# EAGLE library part DART-SD410 (library glasses)
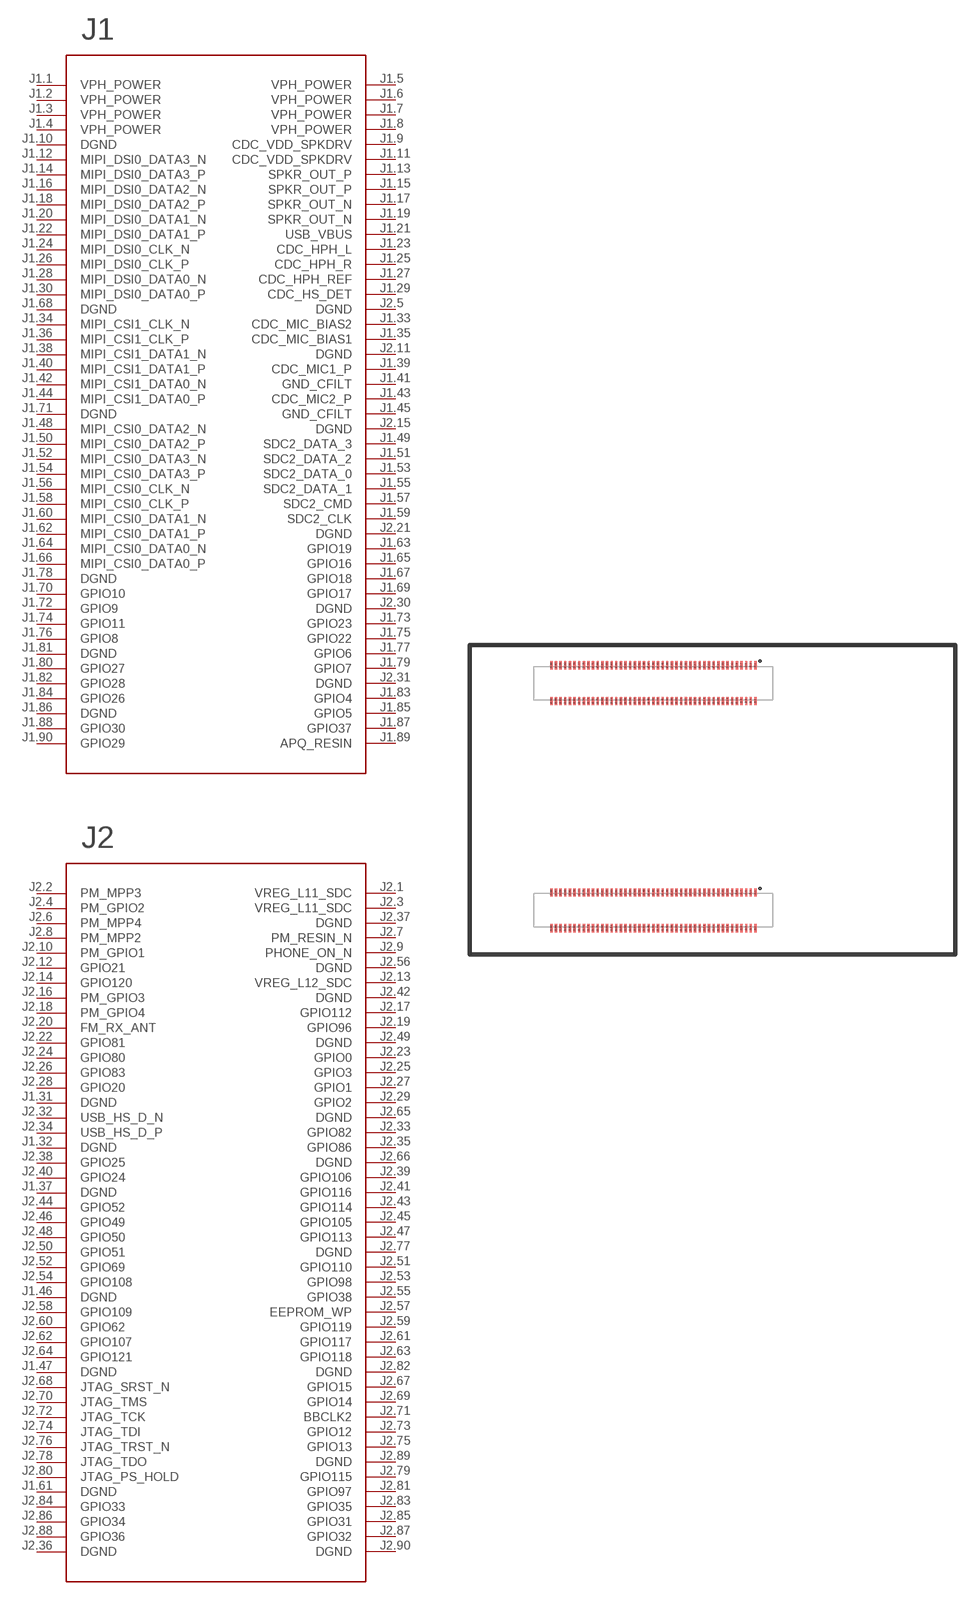
[diagram p2: symbol with the pads of DART-SD410; footprint DART-SD410]

Designator prefix -; gates G$1=DART-SD410-J1 G$2=DART-SD410-J2

## DART-SD410  [DART-SD410]
J1.1  G$1:VPH_POWER
J1.2  G$1:VPH_POWER
J1.3  G$1:VPH_POWER
J1.4  G$1:VPH_POWER
J1.5  G$1:VPH_POWER
J1.6  G$1:VPH_POWER
J1.7  G$1:VPH_POWER
J1.8  G$1:VPH_POWER
J1.9  G$1:CDC_VDD_SPKDRV
J1.10  G$1:DGND
J1.11  G$1:CDC_VDD_SPKDRV
J1.12  G$1:MIPI_DSI0_DATA3_N
J1.13  G$1:SPKR_OUT_P
J1.14  G$1:MIPI_DSI0_DATA3_P
J1.15  G$1:SPKR_OUT_P
J1.16  G$1:MIPI_DSI0_DATA2_N
J1.17  G$1:SPKR_OUT_N
J1.18  G$1:MIPI_DSI0_DATA2_P
J1.19  G$1:SPKR_OUT_N
J1.20  G$1:MIPI_DSI0_DATA1_N
J1.21  G$1:USB_VBUS
J1.22  G$1:MIPI_DSI0_DATA1_P
J1.23  G$1:CDC_HPH_L
J1.24  G$1:MIPI_DSI0_CLK_N
J1.25  G$1:CDC_HPH_R
J1.26  G$1:MIPI_DSI0_CLK_P
J1.27  G$1:CDC_HPH_REF
J1.28  G$1:MIPI_DSI0_DATA0_N
J1.29  G$1:CDC_HS_DET
J1.30  G$1:MIPI_DSI0_DATA0_P
J1.31  G$2:DGND
J1.32  G$2:DGND
J1.33  G$1:CDC_MIC_BIAS2
J1.34  G$1:MIPI_CSI1_CLK_N
J1.35  G$1:CDC_MIC_BIAS1
J1.36  G$1:MIPI_CSI1_CLK_P
J1.37  G$2:DGND
J1.38  G$1:MIPI_CSI1_DATA1_N
J1.39  G$1:CDC_MIC1_P
J1.40  G$1:MIPI_CSI1_DATA1_P
J1.41  G$1:GND_CFILT
J1.42  G$1:MIPI_CSI1_DATA0_N
J1.43  G$1:CDC_MIC2_P
J1.44  G$1:MIPI_CSI1_DATA0_P
J1.45  G$1:GND_CFILT
J1.46  G$2:DGND
J1.47  G$2:DGND
J1.48  G$1:MIPI_CSI0_DATA2_N
J1.49  G$1:SDC2_DATA_3
J1.50  G$1:MIPI_CSI0_DATA2_P
J1.51  G$1:SDC2_DATA_2
J1.52  G$1:MIPI_CSI0_DATA3_N
J1.53  G$1:SDC2_DATA_0
J1.54  G$1:MIPI_CSI0_DATA3_P
J1.55  G$1:SDC2_DATA_1
J1.56  G$1:MIPI_CSI0_CLK_N
J1.57  G$1:SDC2_CMD
J1.58  G$1:MIPI_CSI0_CLK_P
J1.59  G$1:SDC2_CLK
J1.60  G$1:MIPI_CSI0_DATA1_N
J1.61  G$2:DGND
J1.62  G$1:MIPI_CSI0_DATA1_P
J1.63  G$1:GPIO19
J1.64  G$1:MIPI_CSI0_DATA0_N
J1.65  G$1:GPIO16
J1.66  G$1:MIPI_CSI0_DATA0_P
J1.67  G$1:GPIO18
J1.68  G$1:DGND
J1.69  G$1:GPIO17
J1.70  G$1:GPIO10
J1.71  G$1:DGND
J1.72  G$1:GPIO9
J1.73  G$1:GPIO23
J1.74  G$1:GPIO11
J1.75  G$1:GPIO22
J1.76  G$1:GPIO8
J1.77  G$1:GPIO6
J1.78  G$1:DGND
J1.79  G$1:GPIO7
J1.80  G$1:GPIO27
J1.81  G$1:DGND
J1.82  G$1:GPIO28
J1.83  G$1:GPIO4
J1.84  G$1:GPIO26
J1.85  G$1:GPIO5
J1.86  G$1:DGND
J1.87  G$1:GPIO37
J1.88  G$1:GPIO30
J1.89  G$1:APQ_RESIN
J1.90  G$1:GPIO29
J2.1  G$2:VREG_L11_SDC
J2.2  G$2:PM_MPP3
J2.3  G$2:VREG_L11_SDC
J2.4  G$2:PM_GPIO2
J2.5  G$1:DGND
J2.6  G$2:PM_MPP4
J2.7  G$2:PM_RESIN_N
J2.8  G$2:PM_MPP2
J2.9  G$2:PHONE_ON_N
J2.10  G$2:PM_GPIO1
J2.11  G$1:DGND
J2.12  G$2:GPIO21
J2.13  G$2:VREG_L12_SDC
J2.14  G$2:GPIO120
J2.15  G$1:DGND
J2.16  G$2:PM_GPIO3
J2.17  G$2:GPIO112
J2.18  G$2:PM_GPIO4
J2.19  G$2:GPIO96
J2.20  G$2:FM_RX_ANT
J2.21  G$1:DGND
J2.22  G$2:GPIO81
J2.23  G$2:GPIO0
J2.24  G$2:GPIO80
J2.25  G$2:GPIO3
J2.26  G$2:GPIO83
J2.27  G$2:GPIO1
J2.28  G$2:GPIO20
J2.29  G$2:GPIO2
J2.30  G$1:DGND
J2.31  G$1:DGND
J2.32  G$2:USB_HS_D_N
J2.33  G$2:GPIO82
J2.34  G$2:USB_HS_D_P
J2.35  G$2:GPIO86
J2.36  G$2:DGND
J2.37  G$2:DGND
J2.38  G$2:GPIO25
J2.39  G$2:GPIO106
J2.40  G$2:GPIO24
J2.41  G$2:GPIO116
J2.42  G$2:DGND
J2.43  G$2:GPIO114
J2.44  G$2:GPIO52
J2.45  G$2:GPIO105
J2.46  G$2:GPIO49
J2.47  G$2:GPIO113
J2.48  G$2:GPIO50
J2.49  G$2:DGND
J2.50  G$2:GPIO51
J2.51  G$2:GPIO110
J2.52  G$2:GPIO69
J2.53  G$2:GPIO98
J2.54  G$2:GPIO108
J2.55  G$2:GPIO38
J2.56  G$2:DGND
J2.57  G$2:EEPROM_WP
J2.58  G$2:GPIO109
J2.59  G$2:GPIO119
J2.60  G$2:GPIO62
J2.61  G$2:GPIO117
J2.62  G$2:GPIO107
J2.63  G$2:GPIO118
J2.64  G$2:GPIO121
J2.65  G$2:DGND
J2.66  G$2:DGND
J2.67  G$2:GPIO15
J2.68  G$2:JTAG_SRST_N
J2.69  G$2:GPIO14
J2.70  G$2:JTAG_TMS
J2.71  G$2:BBCLK2
J2.72  G$2:JTAG_TCK
J2.73  G$2:GPIO12
J2.74  G$2:JTAG_TDI
J2.75  G$2:GPIO13
J2.76  G$2:JTAG_TRST_N
J2.77  G$2:DGND
J2.78  G$2:JTAG_TDO
J2.79  G$2:GPIO115
J2.80  G$2:JTAG_PS_HOLD
J2.81  G$2:GPIO97
J2.82  G$2:DGND
J2.83  G$2:GPIO35
J2.84  G$2:GPIO33
J2.85  G$2:GPIO31
J2.86  G$2:GPIO34
J2.87  G$2:GPIO32
J2.88  G$2:GPIO36
J2.89  G$2:DGND
J2.90  G$2:DGND

## Footprint DART-SD410 (pad centres in mm)
smd 0.2 x 0.7: J1.1 8.8,-18.02; J1.2 8.8,-21.1; J1.3 8.4,-18.02; J1.4 8.4,-21.1; J1.5 8,-18.02; J1.6 8,-21.1; J1.7 7.6,-18.02; J1.8 7.6,-21.1; J1.9 7.2,-18.02; J1.10 7.2,-21.1; J1.11 6.8,-18.02; J1.12 6.8,-21.1; J1.13 6.4,-18.02; J1.14 6.4,-21.1; J1.15 6,-18.02; J1.16 6,-21.1; J1.17 5.6,-18.02; J1.18 5.6,-21.1; J1.19 5.2,-18.02; J1.20 5.2,-21.1; J1.21 4.8,-18.02; J1.22 4.8,-21.1; J1.23 4.4,-18.02; J1.24 4.4,-21.1; J1.25 4,-18.02; J1.26 4,-21.1; J1.27 3.6,-18.02; J1.28 3.6,-21.1; J1.29 3.2,-18.02; J1.30 3.2,-21.1; J1.31 2.8,-18.02; J1.32 2.8,-21.1; J1.33 2.4,-18.02; J1.34 2.4,-21.1; J1.35 2,-18.02; J1.36 2,-21.1; J1.37 1.6,-18.02; J1.38 1.6,-21.1; J1.39 1.2,-18.02; J1.40 1.2,-21.1; J1.41 0.8,-18.02; J1.42 0.8,-21.1; J1.43 0.4,-18.02; J1.44 0.4,-21.1; J1.45 0,-18.02; J1.46 0,-21.1; J1.47 -0.4,-18.02; J1.48 -0.4,-21.1; J1.49 -0.8,-18.02; J1.50 -0.8,-21.1; J1.51 -1.2,-18.02; J1.52 -1.2,-21.1; J1.53 -1.6,-18.02; J1.54 -1.6,-21.1; J1.55 -2,-18.02; J1.56 -2,-21.1; J1.57 -2.4,-18.02; J1.58 -2.4,-21.1; J1.59 -2.8,-18.02; J1.60 -2.8,-21.1; J1.61 -3.2,-18.02; J1.62 -3.2,-21.1; J1.63 -3.6,-18.02; J1.64 -3.6,-21.1; J1.65 -4,-18.02; J1.66 -4,-21.1; J1.67 -4.4,-18.02; J1.68 -4.4,-21.1; J1.69 -4.8,-18.02; J1.70 -4.8,-21.1; J1.71 -5.2,-18.02; J1.72 -5.2,-21.1; J1.73 -5.6,-18.02; J1.74 -5.6,-21.1; J1.75 -6,-18.02; J1.76 -6,-21.1; J1.77 -6.4,-18.02; J1.78 -6.4,-21.1; J1.79 -6.8,-18.02; J1.80 -6.8,-21.1; J1.81 -7.2,-18.02; J1.82 -7.2,-21.1; J1.83 -7.6,-18.02; J1.84 -7.6,-21.1; J1.85 -8,-18.02; J1.86 -8,-21.1; J1.87 -8.4,-18.02; J1.88 -8.4,-21.1; J1.89 -8.8,-18.02; J1.90 -8.8,-21.1; J2.1 8.8,1.58; J2.2 8.8,-1.5; J2.3 8.4,1.58; J2.4 8.4,-1.5; J2.5 8,1.58; J2.6 8,-1.5; J2.7 7.6,1.58; J2.8 7.6,-1.5; J2.9 7.2,1.58; J2.10 7.2,-1.5; J2.11 6.8,1.58; J2.12 6.8,-1.5; J2.13 6.4,1.58; J2.14 6.4,-1.5; J2.15 6,1.58; J2.16 6,-1.5; J2.17 5.6,1.58; J2.18 5.6,-1.5; J2.19 5.2,1.58; J2.20 5.2,-1.5; J2.21 4.8,1.58; J2.22 4.8,-1.5; J2.23 4.4,1.58; J2.24 4.4,-1.5; J2.25 4,1.58; J2.26 4,-1.5; J2.27 3.6,1.58; J2.28 3.6,-1.5; J2.29 3.2,1.58; J2.30 3.2,-1.5; J2.31 2.8,1.58; J2.32 2.8,-1.5; J2.33 2.4,1.58; J2.34 2.4,-1.5; J2.35 2,1.58; J2.36 2,-1.5; J2.37 1.6,1.58; J2.38 1.6,-1.5; J2.39 1.2,1.58; J2.40 1.2,-1.5; J2.41 0.8,1.58; J2.42 0.8,-1.5; J2.43 0.4,1.58; J2.44 0.4,-1.5; J2.45 0,1.58; J2.46 0,-1.5; J2.47 -0.4,1.58; J2.48 -0.4,-1.5; J2.49 -0.8,1.58; J2.50 -0.8,-1.5; J2.51 -1.2,1.58; J2.52 -1.2,-1.5; J2.53 -1.6,1.58; J2.54 -1.6,-1.5; J2.55 -2,1.58; J2.56 -2,-1.5; J2.57 -2.4,1.58; J2.58 -2.4,-1.5; J2.59 -2.8,1.58; J2.60 -2.8,-1.5; J2.61 -3.2,1.58; J2.62 -3.2,-1.5; J2.63 -3.6,1.58; J2.64 -3.6,-1.5; J2.65 -4,1.58; J2.66 -4,-1.5; J2.67 -4.4,1.58; J2.68 -4.4,-1.5; J2.69 -4.8,1.58; J2.70 -4.8,-1.5; J2.71 -5.2,1.58; J2.72 -5.2,-1.5; J2.73 -5.6,1.58; J2.74 -5.6,-1.5; J2.75 -6,1.58; J2.76 -6,-1.5; J2.77 -6.4,1.58; J2.78 -6.4,-1.5; J2.79 -6.8,1.58; J2.80 -6.8,-1.5; J2.81 -7.2,1.58; J2.82 -7.2,-1.5; J2.83 -7.6,1.58; J2.84 -7.6,-1.5; J2.85 -8,1.58; J2.86 -8,-1.5; J2.87 -8.4,1.58; J2.88 -8.4,-1.5; J2.89 -8.8,1.58; J2.90 -8.8,-1.5